# Altium footprint library KeyboardSwitches.PcbLib: 43 footprints (part 3 of 3)
Each footprint in its own frame and in the unit in brackets; x right, y up, seen from the top. Pads: shape width x height; smd on the part's side, far side on the other; paste and mask are expansions set on the pad; w line width, h text height; cw(c..) or ccw(c..) is an arc to the next point about the centre after c.
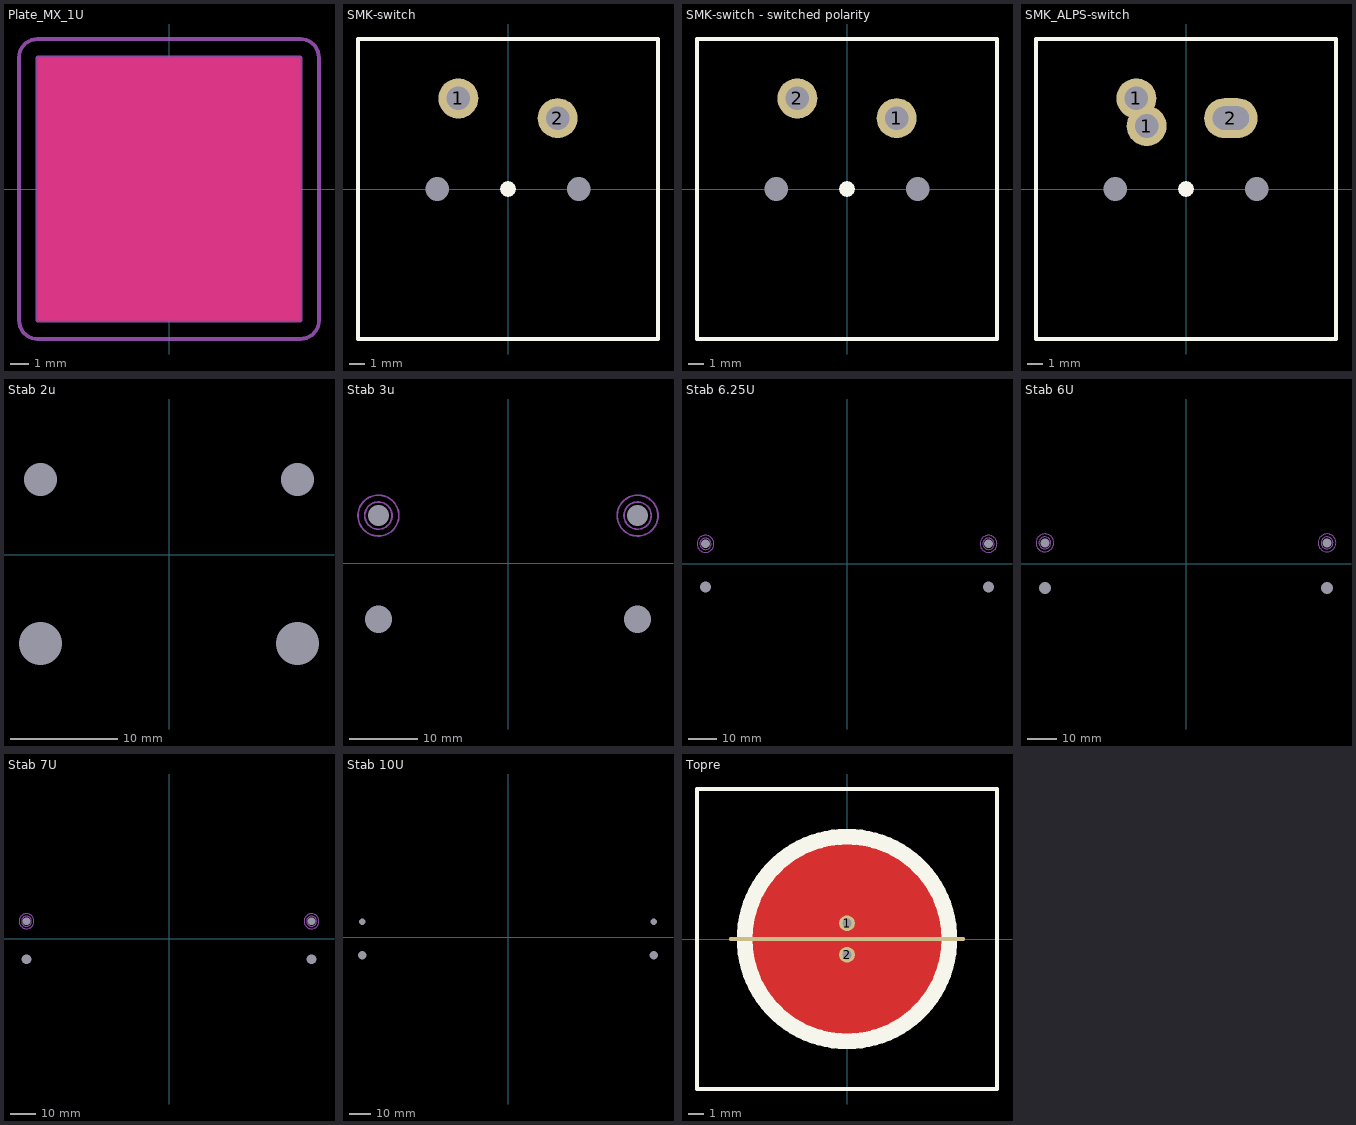
[diagram p2: the footprints below, top view; thin cyan lines are the x and y axes]

## Plate_MX_1U [mm]
pads (2):
  round 1 on Mech13: ""(0,0) ""(0,0)
Top Layer:
  pour cut-out: -7,-7 7,-7 7,7 -7,7
Top Solder:
  region: -7.988,-7.026 -7.988,-7.122 -7.951,-7.31 -7.877,-7.487 -7.771,-7.647 -7.635,-7.783 -7.475,-7.889 -7.298,-7.963 -7.11,-8 -7.014,-8 7.014,-8 7.026,-7.988 7.122,-7.988 7.31,-7.951 7.487,-7.877 7.647,-7.771 7.783,-7.635 7.889,-7.475 7.963,-7.298 8,-7.11 8,-7.014 8,7.014 7.988,7.026 7.988,7.122 7.951,7.31 7.877,7.487 7.771,7.647 7.635,7.783 7.475,7.889 7.298,7.963 7.11,8 7.014,8 -7.014,8 -7.026,7.988 -7.122,7.988 -7.31,7.951 -7.487,7.877 -7.647,7.771 -7.783,7.635 -7.889,7.475 -7.963,7.298 -8,7.11 -8,7.014
Bottom Solder:
  region: -7.988,-7.026 -7.988,-7.122 -7.951,-7.31 -7.877,-7.487 -7.771,-7.647 -7.635,-7.783 -7.475,-7.889 -7.298,-7.963 -7.11,-8 -7.014,-8 7.014,-8 7.026,-7.988 7.122,-7.988 7.31,-7.951 7.487,-7.877 7.647,-7.771 7.783,-7.635 7.889,-7.475 7.963,-7.298 8,-7.11 8,-7.014 8,7.014 7.988,7.026 7.988,7.122 7.951,7.31 7.877,7.487 7.771,7.647 7.635,7.783 7.475,7.889 7.298,7.963 7.11,8 7.014,8 -7.014,8 -7.026,7.988 -7.122,7.988 -7.31,7.951 -7.487,7.877 -7.647,7.771 -7.783,7.635 -7.889,7.475 -7.963,7.298 -8,7.11 -8,7.014
Keep-Out Layer:
  board cut-out: -7,-7 7,-7 7,7 -7,7
Mechanical 13:
  lines w0.2: -8,-7.014 -8,7.014 cw(c-7.026,7.014) -7.026,7.988 ; -7.988,-7.026 ccw(c-7.014,-7.026) -7.014,-8 7.014,-8 ; -7.014,8 7.014,8 cw(c7.014,7.026) 7.988,7.026 ; 7.026,-7.988 ccw(c7.026,-7.014) 8,-7.014 8,7.014
  lines w0.254: -7,-7 7,-7 7,7 -7,7 -7,-7
Mechanical 15:
  lines w0.254: -7,-7 -7,7 7,7 7,-7 -7,-7

## SMK-switch [mm]
pads (5):
  round 2.54 hole 1.499 mask-0.5: 1(-3.15,5.75) 2(3.15,4.5)
  round 1 hole 1.5 unplated: ""(-4.5,0) ""(4.5,0)
  round 1 on Top Overlay: ""(0,0)
Top Overlay:
  lines w0.254: -9.525,-9.525 9.525,-9.525 9.525,9.525 -9.525,9.525 -9.525,-9.525

## SMK-switch - switched polarity [mm]
pads (5):
  round 2.54 hole 1.499 mask-0.5: 1(3.15,4.5) 2(-3.15,5.75)
  round 1 hole 1.5 unplated: ""(-4.5,0) ""(4.5,0)
  round 1 on Top Overlay: ""(0,0)
Top Overlay:
  lines w0.254: -9.525,-9.525 -9.525,9.525 9.525,9.525 9.525,-9.525 -9.525,-9.525

## SMK_ALPS-switch [mm]
pads (6):
  round 2.54 hole 1.499 mask-0.5: 1(-3.15,5.75) 1(-2.5,4)
  oval 3.4x2.54 hole 1.499 slot 2.3 at 0 deg mask-1: 2(2.85,4.5)
  round 1 hole 1.5 unplated: ""(-4.5,0) ""(4.5,0)
  round 1 on Top Overlay: ""(0,0)
Top Overlay:
  lines w0.254: -9.525,-9.525 9.525,-9.525 9.525,9.525 -9.525,9.525 -9.525,-9.525

## Stab 2u [mil]
pads (4):
  round 60 hole 157.01 unplated: ""(-470,-325) ""(470,-325)
  round 60 hole 120 unplated: ""(-470,275) ""(470,275)
3D body "Stab.stp": height 614.17, standoff -106.3, extent 336.14,-433.07 603.86,322.83
3D body "Stab.stp": height 614.17, standoff -106.3, extent -603.86,-433.07 -336.14,322.83

## Stab 3u [mil]
pads (4):
  round 60 hole 157.01 unplated: ""(-750,-325) ""(750,-325)
  round 60 hole 120 unplated: ""(-750,275) ""(750,275)
Mechanical 15:
  circle w10: c750,275 r78.74
  circle w10: c750,275 r118.11
  circle w10: c-750,275 r78.74
  circle w10: c-750,275 r118.11
3D body "Stab.stp": height 614.17, standoff -106.3, extent 616.14,-433.07 883.86,322.83
3D body "Stab.stp": height 614.17, standoff -106.3, extent -883.86,-433.07 -616.14,322.83

## Stab 6.25U [mil]
pads (4):
  round 60 hole 157.01 unplated: ""(-1968.5,-325) ""(1968.5,-325)
  round 60 hole 120 unplated: ""(-1968.5,275) ""(1968.5,275)
Mechanical 15:
  circle w10: c1968.5,275 r78.74
  circle w10: c1968.5,275 r118.11
  circle w10: c-1968.5,275 r78.74
  circle w10: c-1968.5,275 r118.11
3D body "Stab.stp": height 614.17, standoff -106.3, extent 1834.65,-433.07 2102.36,322.83
3D body "Stab.stp": height 614.17, standoff -106.3, extent -2102.36,-433.07 -1834.65,322.83

## Stab 6U [mil]
pads (4):
  round 60 hole 157.01 unplated: ""(-1870.08,-325) ""(1870.08,-325)
  round 60 hole 120 unplated: ""(-1870.08,275) ""(1870.08,275)
Mechanical 15:
  circle w10: c1870.08,275 r78.74
  circle w10: c1870.08,275 r118.11
  circle w10: c-1870.08,275 r78.74
  circle w10: c-1870.08,275 r118.11
3D body "Stab.stp": height 614.17, standoff -106.3, extent -2003.94,-433.07 -1736.22,322.83
3D body "Stab.stp": height 614.17, standoff -106.3, extent 1736.22,-433.07 2003.94,322.83

## Stab 7U [mil]
pads (4):
  round 60 hole 157.01 unplated: ""(-2250,-325) ""(2250,-325)
  round 60 hole 120 unplated: ""(-2250,275) ""(2250,275)
Mechanical 15:
  circle w10: c-2250,275 r118.11
  circle w10: c-2250,275 r78.74
  circle w10: c2250,275 r118.11
  circle w10: c2250,275 r78.74
3D body "Stab.stp": height 614.17, standoff -106.3, extent 2116.14,-433.07 2383.86,322.83
3D body "Stab.stp": height 614.17, standoff -106.3, extent -2383.86,-433.07 -2116.14,322.83

## Stab 10U [mil]
pads (4):
  round 60 hole 157.01 unplated: ""(-2625,-325) ""(2625,-325)
  round 60 hole 120 unplated: ""(-2625,275) ""(2625,275)
3D body "Stab.stp": height 614.17, standoff -106.3, extent -2758.86,-433.07 -2491.14,322.83
3D body "Stab.stp": height 614.17, standoff -106.3, extent 2491.14,-433.07 2758.86,322.83

## Topre [mm]
pads (3):
  round 1 hole 0.6 mask+0: 1(0,1) 2(0,-1)
  oval 15x0.25 smd paste-1 mask+0: 3(0,0)
Top Layer:
  region: -5.841,-1.314 -5.767,-1.643 -5.546,-2.28 -5.255,-2.888 -4.898,-3.459 -4.479,-3.987 -4.003,-4.464 -3.477,-4.885 -2.907,-5.245 -2.3,-5.538 -1.664,-5.761 -1.007,-5.911 -0.337,-5.987 0.337,-5.987 1.007,-5.911 1.664,-5.761 2.3,-5.538 2.907,-5.245 3.477,-4.885 4.003,-4.464 4.479,-3.987 4.898,-3.459 5.255,-2.888 5.546,-2.28 5.767,-1.643 5.841,-1.314 5.845,-1.294 5.852,-1.253 5.857,-1.212 5.859,-1.17 5.859,-1.149 5.859,-1.02 5.772,-0.775 5.608,-0.575 5.386,-0.44 5.259,-0.414 5.237,-0.409 5.193,-0.401 5.148,-0.395 5.103,-0.393 5.08,-0.393 -5.08,-0.393 -5.103,-0.393 -5.148,-0.395 -5.193,-0.401 -5.237,-0.409 -5.259,-0.414 -5.332,-0.429 -5.47,-0.488 -5.594,-0.572 -5.698,-0.679 -5.779,-0.805 -5.834,-0.944 -5.861,-1.092 -5.857,-1.241
  region: -5.259,0.414 -5.237,0.409 -5.193,0.401 -5.148,0.395 -5.103,0.393 -5.08,0.393 5.08,0.393 5.103,0.393 5.148,0.395 5.193,0.401 5.237,0.409 5.259,0.414 5.386,0.44 5.608,0.575 5.772,0.775 5.859,1.02 5.859,1.149 5.859,1.17 5.857,1.212 5.852,1.253 5.845,1.294 5.841,1.314 5.767,1.643 5.546,2.28 5.255,2.888 4.898,3.459 4.479,3.987 4.003,4.464 3.477,4.885 2.907,5.245 2.3,5.538 1.664,5.761 1.007,5.911 0.337,5.987 -0.337,5.987 -1.007,5.911 -1.664,5.761 -2.3,5.538 -2.907,5.245 -3.477,4.885 -4.003,4.464 -4.479,3.987 -4.898,3.459 -5.255,2.888 -5.546,2.28 -5.767,1.643 -5.841,1.314 -5.857,1.241 -5.861,1.092 -5.834,0.944 -5.779,0.805 -5.698,0.679 -5.594,0.572 -5.47,0.488 -5.332,0.429
  pour cut-out: 0,-6.884 -0.338,-6.884 -1.011,-6.818 -1.675,-6.686 -2.322,-6.489 -2.947,-6.23 -3.543,-5.912 -4.106,-5.536 -4.628,-5.107 -5.107,-4.628 -5.536,-4.106 -5.912,-3.543 -6.23,-2.947 -6.489,-2.322 -6.686,-1.675 -6.818,-1.011 -6.884,-0.338 -6.884,0 -6.884,0.338 -6.818,1.011 -6.686,1.675 -6.489,2.322 -6.23,2.947 -5.912,3.543 -5.536,4.106 -5.107,4.628 -4.628,5.107 -4.106,5.536 -3.543,5.912 -2.947,6.23 -2.322,6.489 -1.675,6.686 -1.011,6.818 -0.338,6.884 0,6.884 0.338,6.884 1.011,6.818 1.675,6.686 2.322,6.489 2.947,6.23 3.543,5.912 4.106,5.536 4.628,5.107 5.107,4.628 5.536,4.106 5.912,3.543 6.23,2.947 6.489,2.322 6.686,1.675 6.818,1.011 6.884,0.338 6.884,0 6.884,-0.338 6.818,-1.011 6.686,-1.675 6.489,-2.322 6.23,-2.947 5.912,-3.543 5.536,-4.106 5.107,-4.628 4.628,-5.107 4.106,-5.536 3.543,-5.912 2.947,-6.23 2.322,-6.489 1.675,-6.686 1.011,-6.818 0.338,-6.884
Bottom Layer:
  pour cut-out: -6.51,0 -6.51,-0.319 -6.447,-0.955 -6.323,-1.581 -6.137,-2.192 -5.893,-2.782 -5.592,-3.346 -5.237,-3.877 -4.832,-4.37 -4.38,-4.822 -3.887,-5.227 -3.356,-5.582 -2.792,-5.883 -2.202,-6.127 -1.591,-6.313 -0.965,-6.437 -0.329,-6.5 -0.01,-6.5 0.309,-6.5 0.945,-6.437 1.571,-6.313 2.182,-6.127 2.772,-5.883 3.336,-5.582 3.867,-5.227 4.36,-4.822 4.812,-4.37 5.217,-3.877 5.572,-3.346 5.873,-2.782 6.117,-2.192 6.303,-1.581 6.427,-0.955 6.49,-0.319 6.49,0 6.49,0.319 6.427,0.955 6.303,1.581 6.117,2.192 5.873,2.782 5.572,3.346 5.217,3.877 4.812,4.37 4.36,4.822 3.867,5.227 3.336,5.582 2.772,5.883 2.182,6.127 1.571,6.313 0.945,6.437 0.309,6.5 -0.01,6.5 -0.329,6.5 -0.965,6.437 -1.591,6.313 -2.202,6.127 -2.792,5.883 -3.356,5.582 -3.887,5.227 -4.38,4.822 -4.832,4.37 -5.237,3.877 -5.592,3.346 -5.893,2.782 -6.137,2.192 -6.323,1.581 -6.447,0.955 -6.51,0.319
  pour cut-out: 0,-6.884 -0.338,-6.884 -1.011,-6.818 -1.675,-6.686 -2.322,-6.489 -2.947,-6.23 -3.543,-5.912 -4.106,-5.536 -4.628,-5.107 -5.107,-4.628 -5.536,-4.106 -5.912,-3.543 -6.23,-2.947 -6.489,-2.322 -6.686,-1.675 -6.818,-1.011 -6.884,-0.338 -6.884,0 -6.884,0.338 -6.818,1.011 -6.686,1.675 -6.489,2.322 -6.23,2.947 -5.912,3.543 -5.536,4.106 -5.107,4.628 -4.628,5.107 -4.106,5.536 -3.543,5.912 -2.947,6.23 -2.322,6.489 -1.675,6.686 -1.011,6.818 -0.338,6.884 0,6.884 0.338,6.884 1.011,6.818 1.675,6.686 2.322,6.489 2.947,6.23 3.543,5.912 4.106,5.536 4.628,5.107 5.107,4.628 5.536,4.106 5.912,3.543 6.23,2.947 6.489,2.322 6.686,1.675 6.818,1.011 6.884,0.338 6.884,0 6.884,-0.338 6.818,-1.011 6.686,-1.675 6.489,-2.322 6.23,-2.947 5.912,-3.543 5.536,-4.106 5.107,-4.628 4.628,-5.107 4.106,-5.536 3.543,-5.912 2.947,-6.23 2.322,-6.489 1.675,-6.686 1.011,-6.818 0.338,-6.884
Top Overlay:
  circle w1: c0,0 r6.5
  lines w0.254: -9.525,-9.525 -9.525,9.525 9.525,9.525 9.525,-9.525 -9.525,-9.525